# Altium schematic symbol library PJ-002A.SchLib: 1 symbol
Pins are listed as number, name and electrical type; pins without a type are passive.

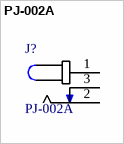
[diagram p0: symbol PJ-002A]

## PJ-002A
designator J?
2.0 x 6.5 mm, 2.5 A, Horizontal, Through Hole, Dc Power Jack Connector; MF: CUI Inc.; MP: PJ-002A; Package: None; CUI_purchase_URL: https://www.cui.com/product/interconnect/connectors/dc-power-connectors/jacks/pj-002a?utm_source=snapeda.com&utm_medium=referral&utm_campaign=snapedaBOM; Digi-Key_Purchase_URL: https://www.digikey.com/product-detail/en/cui-devices/PJ-002A/CP-002A-ND/96962?utm_source=snapeda&utm_medium=aggregator&utm_campaign=symbol; Digi-Key_Part_Number: CP-002A-ND; SnapEDA_Link: https://www.snapeda.com/parts/PJ-002A/CUI%20Inc./view-part/?ref=snap; Value: *
footprint *CUI_PJ-002A
pins: 1, 2, 3